# EAGLE library part MC34063A (library kmarx1)
1.5A step-up/down inverting switch regulator IC,MC34063AP1,8-DIP, SWTH V-REG STPUP/DN/INV 40VDC Jameco #: 316945 MFG:MAJOR BRANDS MFG#:MC34063AP1
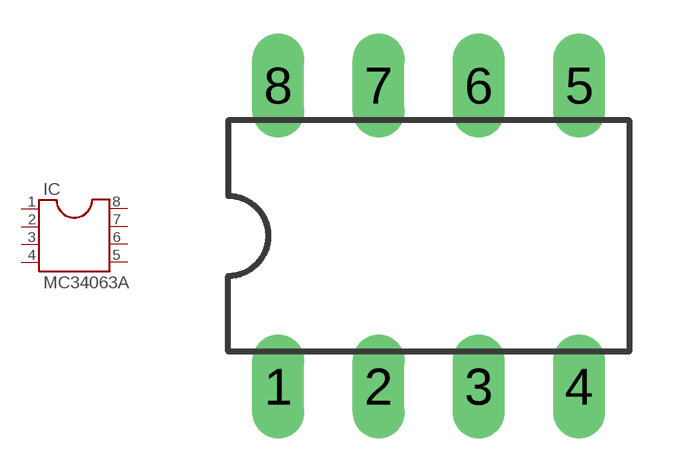
[diagram p4: symbol with the pads of DIL08; footprint DIL08]

Designator prefix IC

## MC34063A  [DIL08]
1  1  pas
2  2  pas
3  3  pas
4  4  pas
5  5  pas
6  6  pas
7  7  pas
8  8  pas

## Footprint DIL08 (pad centres in mm)
drill 0.813 long: 1 -3.81,-3.81; 2 -1.27,-3.81; 3 1.27,-3.81; 4 3.81,-3.81; 5 3.81,3.81; 6 1.27,3.81; 7 -1.27,3.81; 8 -3.81,3.81